# Altium footprint library LED 3mm.PcbLib: 1 footprints
Each footprint in its own frame and in the unit in brackets; x right, y up, seen from the top. Pads: shape width x height; smd on the part's side, far side on the other; paste and mask are expansions set on the pad; w line width, h text height; cw(c..) or ccw(c..) is an arc to the next point about the centre after c.
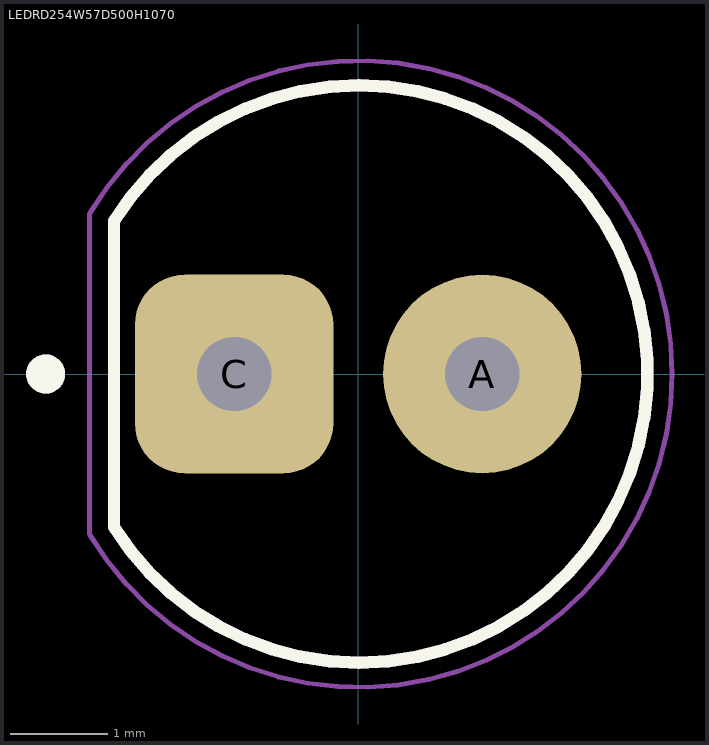
[diagram p0: the footprint, top view; thin cyan lines are the x and y axes]

## LEDRD254W57D500H1070 [mil]
height 421.26
pads (2):
  round 80 hole 30: A(50,0)
  rrect50% 80x80 hole 30: C(-50,0)
Top Overlay:
  circle w7.87: c-125.98,0 r3.94
  lines w5: -98.43,-61.65 ccw(c0.24,0) -98.43,61.65 -98.43,-61.65
Mechanical 13:
  circle w7.87: c-125.98,0 r3.94
  lines w5: -98.43,-61.65 ccw(c0.24,0) -98.43,61.65 -98.43,-61.65
Mechanical 15:
  lines w1.97: -108.27,-64.57 -108.27,64.57 ; -107.98,-65.04 ccw(c0.26,0) -107.98,65.04
3D body "step_temp.STEP": height 358.27, standoff -700.79, extent -102.36,-116.14 116.14,116.14